# Altium footprint library Connector.PcbLib: 2 footprints
Each footprint in its own frame and in the unit in brackets; x right, y up, seen from the top. Pads: shape width x height; smd on the part's side, far side on the other; paste and mask are expansions set on the pad; w line width, h text height; cw(c..) or ccw(c..) is an arc to the next point about the centre after c.
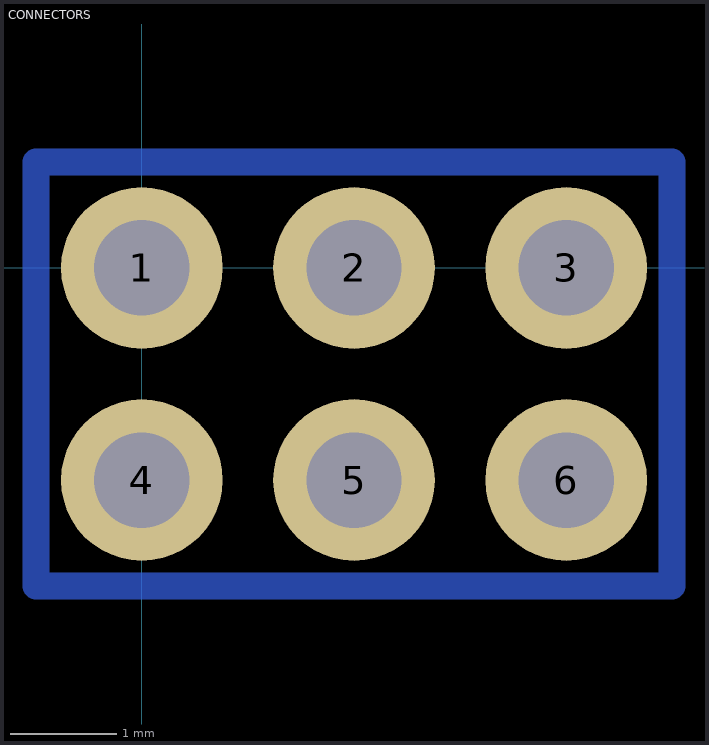
[diagram p0: the footprints below, top view; thin cyan lines are the x and y axes]

## CONNECTORS [mm]
pads (6):
  round 1.524 hole 0.9: 1(0,0) 2(2,0) 3(4,0) 4(0,-2) 5(2,-2) 6(4,-2)
Bottom Layer:
  lines w0.254: -1,-3 5,-3 5,1 -1,1 -1,-3

## PCBComponent_1 [mil]